# EAGLE library part XCV2000E_FG860 (library xilinx-xcv)
xcv2000e_fg860 edit this description Auto generated by make-symbol-device-package-bsdl.ulp Rev. 26 Source: xcv2000e_fg860.bsd
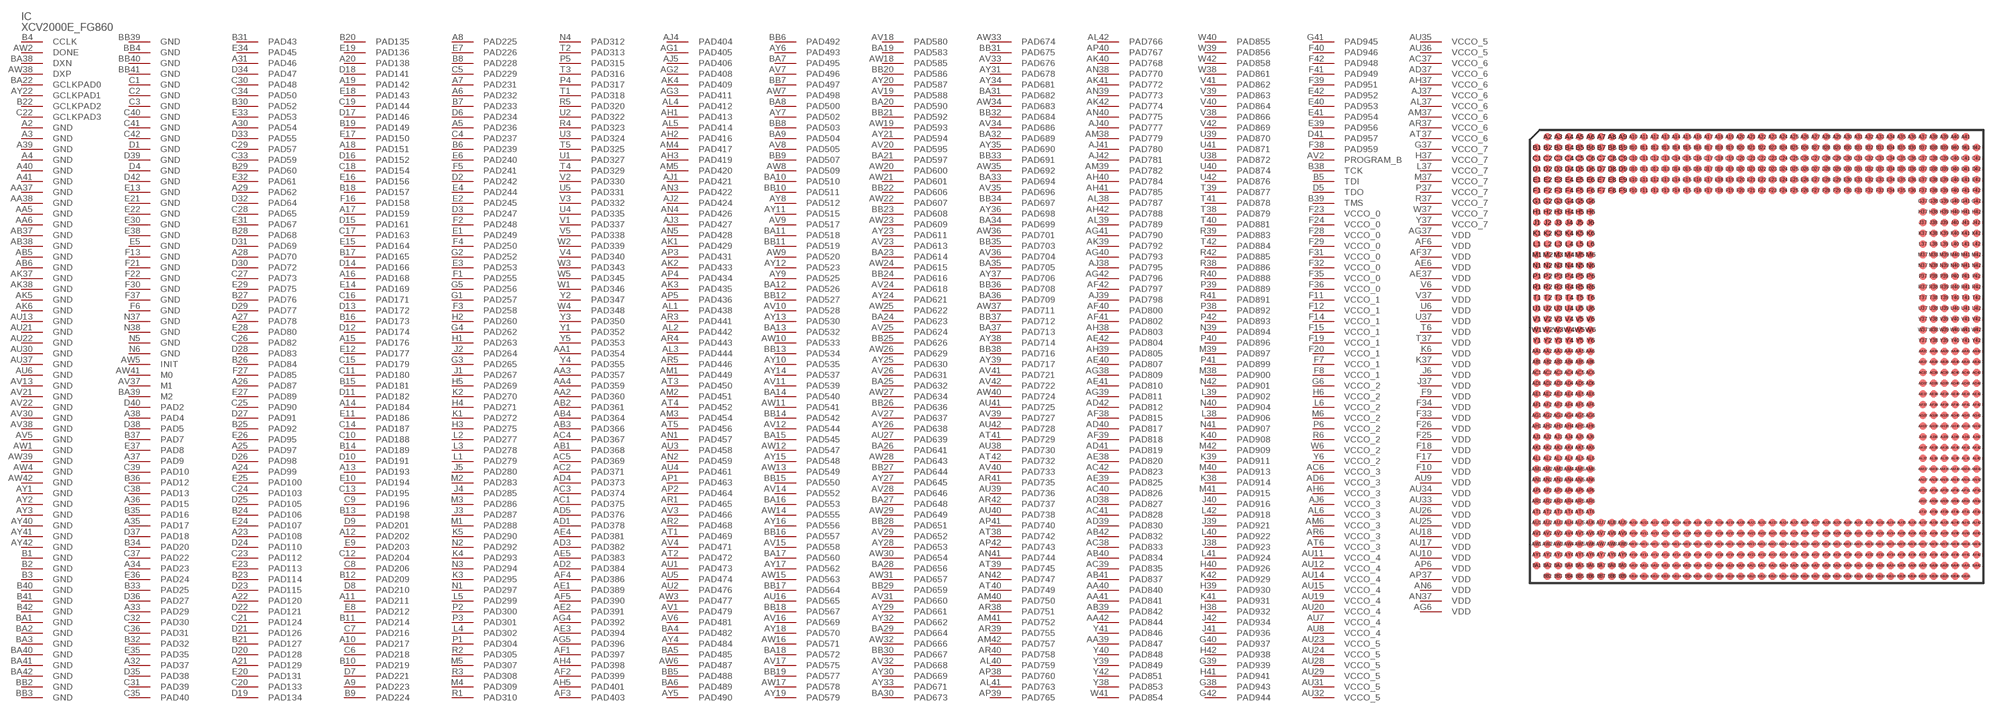
[diagram p52: symbol with the pads of FG860; footprint FG860]

Designator prefix IC

## XCV2000E_FG860  [FG860]
A2  GND  pwr
A3  GND  pwr
A4  GND  pwr
A5  PAD236
A6  PAD232
A7  PAD231
A8  PAD225
A9  PAD223
A10  PAD217
A11  PAD211
A12  PAD202
A13  PAD193
A14  PAD184
A15  PAD176
A16  PAD168
A17  PAD159
A18  PAD151
A19  PAD142
A20  PAD138
A21  PAD129
A22  PAD120
A23  PAD108
A24  PAD99
A25  PAD97
A26  PAD87
A27  PAD78
A28  PAD70
A29  PAD62
A30  PAD54
A31  PAD46
A32  PAD37
A33  PAD29
A34  PAD23
A35  PAD17
A36  PAD15
A37  PAD9
A38  PAD4
A39  GND  pwr
A40  GND  pwr
A41  GND  pwr
AA1  PAD354
AA2  PAD360
AA3  PAD357
AA4  PAD359
AA5  GND  pwr
AA6  GND  pwr
AA37  GND  pwr
AA38  GND  pwr
AA39  PAD847
AA40  PAD840
AA41  PAD841
AA42  PAD844
AB1  PAD368
AB2  PAD361
AB3  PAD366
AB4  PAD364
AB5  GND  pwr
AB6  GND  pwr
AB37  GND  pwr
AB38  GND  pwr
AB39  PAD842
AB40  PAD834
AB41  PAD837
AB42  PAD832
AC1  PAD375
AC2  PAD371
AC3  PAD374
AC4  PAD367
AC5  PAD369
AC6  VCCO_3  pwr
AC37  VCCO_6  pwr
AC38  PAD833
AC39  PAD835
AC40  PAD826
AC41  PAD828
AC42  PAD823
AD1  PAD378
AD2  PAD384
AD3  PAD382
AD4  PAD373
AD5  PAD376
AD6  VCCO_3  pwr
AD37  VCCO_6  pwr
AD38  PAD827
AD39  PAD830
AD40  PAD817
AD41  PAD819
AD42  PAD812
AE1  PAD389
AE2  PAD391
AE3  PAD394
AE4  PAD381
AE5  PAD383
AE6  VDD  pwr
AE37  VDD  pwr
AE38  PAD820
AE39  PAD825
AE40  PAD807
AE41  PAD810
AE42  PAD804
AF1  PAD397
AF2  PAD399
AF3  PAD403
AF4  PAD386
AF5  PAD390
AF6  VDD  pwr
AF37  VDD  pwr
AF38  PAD815
AF39  PAD818
AF40  PAD800
AF41  PAD802
AF42  PAD797
AG1  PAD405
AG2  PAD408
AG3  PAD411
AG4  PAD392
AG5  PAD396
AG6  VDD  pwr
AG37  VDD  pwr
AG38  PAD809
AG39  PAD811
AG40  PAD793
AG41  PAD790
AG42  PAD796
AH1  PAD413
AH2  PAD416
AH3  PAD419
AH4  PAD398
AH5  PAD401
AH6  VCCO_3  pwr
AH37  VCCO_6  pwr
AH38  PAD803
AH39  PAD805
AH40  PAD784
AH41  PAD785
AH42  PAD788
AJ1  PAD421
AJ2  PAD424
AJ3  PAD427
AJ4  PAD404
AJ5  PAD406
AJ6  VCCO_3  pwr
AJ37  VCCO_6  pwr
AJ38  PAD795
AJ39  PAD798
AJ40  PAD777
AJ41  PAD780
AJ42  PAD781
AK1  PAD429
AK2  PAD433
AK3  PAD435
AK4  PAD409
AK5  GND  pwr
AK6  GND  pwr
AK37  GND  pwr
AK38  GND  pwr
AK39  PAD792
AK40  PAD768
AK41  PAD772
AK42  PAD774
AL1  PAD438
AL2  PAD442
AL3  PAD444
AL4  PAD412
AL5  PAD414
AL6  VCCO_3  pwr
AL37  VCCO_6  pwr
AL38  PAD787
AL39  PAD789
AL40  PAD759
AL41  PAD763
AL42  PAD766
AM1  PAD449
AM2  PAD451
AM3  PAD454
AM4  PAD417
AM5  PAD420
AM6  VCCO_3  pwr
AM37  VCCO_6  pwr
AM38  PAD779
AM39  PAD782
AM40  PAD750
AM41  PAD752
AM42  PAD757
AN1  PAD457
AN2  PAD459
AN3  PAD422
AN4  PAD426
AN5  PAD428
AN6  VDD  pwr
AN37  VDD  pwr
AN38  PAD770
AN39  PAD773
AN40  PAD775
AN41  PAD744
AN42  PAD747
AP1  PAD463
AP2  PAD464
AP3  PAD431
AP4  PAD434
AP5  PAD436
AP6  VDD  pwr
AP37  VDD  pwr
AP38  PAD760
AP39  PAD765
AP40  PAD767
AP41  PAD740
AP42  PAD743
AR1  PAD465
AR2  PAD468
AR3  PAD441
AR4  PAD443
AR5  PAD446
AR6  VCCO_3  pwr
AR37  VCCO_6  pwr
AR38  PAD751
AR39  PAD755
AR40  PAD758
AR41  PAD735
AR42  PAD737
AT1  PAD469
AT2  PAD472
AT3  PAD450
AT4  PAD452
AT5  PAD456
AT6  VCCO_3  pwr
AT37  VCCO_6  pwr
AT38  PAD742
AT39  PAD745
AT40  PAD749
AT41  PAD729
AT42  PAD732
AU1  PAD473
AU2  PAD476
AU3  PAD458
AU4  PAD461
AU5  PAD474
AU6  GND  pwr
AU7  VCCO_4  pwr
AU8  VCCO_4  pwr
AU9  VDD  pwr
AU10  VDD  pwr
AU11  VCCO_4  pwr
AU12  VCCO_4  pwr
AU13  GND  pwr
AU14  VCCO_4  pwr
AU15  VCCO_4  pwr
AU16  PAD565
AU17  VDD  pwr
AU18  VDD  pwr
AU19  VCCO_4  pwr
AU20  VCCO_4  pwr
AU21  GND  pwr
AU22  GND  pwr
AU23  VCCO_5  pwr
AU24  VCCO_5  pwr
AU25  VDD  pwr
AU26  VDD  pwr
AU27  PAD639
AU28  VCCO_5  pwr
AU29  VCCO_5  pwr
AU30  GND  pwr
AU31  VCCO_5  pwr
AU32  VCCO_5  pwr
AU33  VDD  pwr
AU34  VDD  pwr
AU35  VCCO_5  pwr
AU36  VCCO_5  pwr
AU37  GND  pwr
AU38  PAD730
AU39  PAD736
AU40  PAD738
AU41  PAD725
AU42  PAD728
AV1  PAD479
AV2  PROGRAM_B  in
AV3  PAD466
AV4  PAD471
AV5  GND  pwr
AV6  PAD481
AV7  PAD496
AV8  PAD505
AV9  PAD517
AV10  PAD528
AV11  PAD539
AV12  PAD544
AV13  GND  pwr
AV14  PAD552
AV15  PAD558
AV16  PAD569
AV17  PAD575
AV18  PAD580
AV19  PAD588
AV20  PAD595
AV21  GND  pwr
AV22  GND  pwr
AV23  PAD613
AV24  PAD618
AV25  PAD624
AV26  PAD631
AV27  PAD637
AV28  PAD646
AV29  PAD652
AV30  GND  pwr
AV31  PAD660
AV32  PAD668
AV33  PAD676
AV34  PAD686
AV35  PAD696
AV36  PAD704
AV37  M1  in
AV38  GND  pwr
AV39  PAD727
AV40  PAD733
AV41  PAD721
AV42  PAD722
AW1  GND  pwr
AW2  DONE
AW3  PAD477
AW4  GND  pwr
AW5  INIT
AW6  PAD487
AW7  PAD498
AW8  PAD509
AW9  PAD520
AW10  PAD533
AW11  PAD541
AW12  PAD547
AW13  PAD549
AW14  PAD555
AW15  PAD563
AW16  PAD571
AW17  PAD578
AW18  PAD585
AW19  PAD593
AW20  PAD600
AW21  PAD601
AW22  PAD607
AW23  PAD609
AW24  PAD615
AW25  PAD622
AW26  PAD629
AW27  PAD634
AW28  PAD643
AW29  PAD649
AW30  PAD654
AW31  PAD657
AW32  PAD666
AW33  PAD674
AW34  PAD683
AW35  PAD692
AW36  PAD701
AW37  PAD711
AW38  DXP  pas
AW39  GND  pwr
AW40  PAD724
AW41  M0  in
AW42  GND  pwr
AY1  GND  pwr
AY2  GND  pwr
AY3  GND  pwr
AY4  PAD484
AY5  PAD490
AY6  PAD493
AY7  PAD502
AY8  PAD512
AY9  PAD525
AY10  PAD535
AY11  PAD515
AY12  PAD523
AY13  PAD530
AY14  PAD537
AY15  PAD548
AY16  PAD556
AY17  PAD562
AY18  PAD570
AY19  PAD579
AY20  PAD587
AY21  PAD594
AY22  GCLKPAD1  in
AY23  PAD611
AY24  PAD621
AY25  PAD630
AY26  PAD638
AY27  PAD645
AY28  PAD653
AY29  PAD661
AY30  PAD669
AY31  PAD678
AY32  PAD662
AY33  PAD671
AY34  PAD681
AY35  PAD690
AY36  PAD698
AY37  PAD706
AY38  PAD714
AY39  PAD717
AY40  GND  pwr
AY41  GND  pwr
AY42  GND  pwr
B1  GND  pwr
B2  GND  pwr
B3  GND  pwr
B4  CCLK
B5  TDI  in
B6  PAD239
B7  PAD233
B8  PAD228
B9  PAD224
B10  PAD219
B11  PAD214
B12  PAD209
B13  PAD198
B14  PAD189
B15  PAD181
B16  PAD173
B17  PAD165
B18  PAD157
B19  PAD149
B20  PAD135
B21  PAD127
B22  GCLKPAD2  in
B23  PAD114
B24  PAD106
B25  PAD92
B26  PAD84
B27  PAD76
B28  PAD68
B29  PAD60
B30  PAD52
B31  PAD43
B32  PAD32
B33  PAD25
B34  PAD20
B35  PAD16
B36  PAD12
B37  PAD7
B38  TCK  in
B39  TMS  in
B40  GND  pwr
B41  GND  pwr
B42  GND  pwr
BA1  GND  pwr
BA2  GND  pwr
BA3  GND  pwr
BA4  PAD482
BA5  PAD485
BA6  PAD489
BA7  PAD495
BA8  PAD500
BA9  PAD504
BA10  PAD510
BA11  PAD518
BA12  PAD526
BA13  PAD532
BA14  PAD540
BA15  PAD545
BA16  PAD553
BA17  PAD560
BA18  PAD572
BA19  PAD583
BA20  PAD590
BA21  PAD597
BA22  GCLKPAD0  in
BA23  PAD614
BA24  PAD623
BA25  PAD632
BA26  PAD641
BA27  PAD648
BA28  PAD656
BA29  PAD664
BA30  PAD673
BA31  PAD682
BA32  PAD689
BA33  PAD694
BA34  PAD699
BA35  PAD705
BA36  PAD709
BA37  PAD713
BA38  DXN  pas
BA39  M2  in
BA40  GND  pwr
BA41  GND  pwr
BA42  GND  pwr
BB2  GND  pwr
BB3  GND  pwr
BB4  GND  pwr
BB5  PAD488
BB6  PAD492
BB7  PAD497
BB8  PAD503
BB9  PAD507
BB10  PAD511
BB11  PAD519
BB12  PAD527
BB13  PAD534
BB14  PAD542
BB15  PAD550
BB16  PAD557
BB17  PAD564
BB18  PAD567
BB19  PAD577
BB20  PAD586
BB21  PAD592
BB22  PAD606
BB23  PAD608
BB24  PAD616
BB25  PAD626
BB26  PAD636
BB27  PAD644
BB28  PAD651
BB29  PAD659
BB30  PAD667
BB31  PAD675
BB32  PAD684
BB33  PAD691
BB34  PAD697
BB35  PAD703
BB36  PAD708
BB37  PAD712
BB38  PAD716
BB39  GND  pwr
BB40  GND  pwr
BB41  GND  pwr
C1  GND  pwr
C2  GND  pwr
C3  GND  pwr
C4  PAD237
C5  PAD229
C6  PAD218
C7  PAD216
C8  PAD206
C9  PAD196
C10  PAD188
C11  PAD180
C12  PAD204
C13  PAD195
C14  PAD187
C15  PAD179
C16  PAD171
C17  PAD163
C18  PAD154
C19  PAD144
C20  PAD133
C21  PAD124
C22  GCLKPAD3  in
C23  PAD112
C24  PAD103
C25  PAD90
C26  PAD82
C27  PAD73
C28  PAD65
C29  PAD57
C30  PAD48
C31  PAD39
C32  PAD30
C33  PAD59
C34  PAD50
C35  PAD40
C36  PAD31
C37  PAD22
C38  PAD13
C39  PAD10
C40  GND  pwr
C41  GND  pwr
C42  GND  pwr
D1  GND  pwr
D2  PAD242
D3  PAD247
D4  GND  pwr
D5  TDO  out
D6  PAD234
D7  PAD221
D8  PAD210
D9  PAD201
D10  PAD191
D11  PAD182
D12  PAD174
D13  PAD172
D14  PAD166
D15  PAD161
D16  PAD152
D17  PAD146
D18  PAD141
D19  PAD134
D20  PAD128
D21  PAD126
D22  PAD121
D23  PAD115
D24  PAD110
D25  PAD105
D26  PAD98
D27  PAD91
D28  PAD83
D29  PAD77
D30  PAD72
D31  PAD69
D32  PAD64
D33  PAD55
D34  PAD47
D35  PAD38
D36  PAD27
D37  PAD18
D38  PAD5
D39  GND  pwr
D40  PAD2
D41  PAD957
D42  GND  pwr
E1  PAD249
E2  PAD245
E3  PAD253
E4  PAD244
E5  GND  pwr
E6  PAD240
E7  PAD226
E8  PAD212
E9  PAD203
E10  PAD194
E11  PAD186
E12  PAD177
E13  GND  pwr
E14  PAD169
E15  PAD164
E16  PAD156
E17  PAD150
E18  PAD143
E19  PAD136
E20  PAD131
E21  GND  pwr
E22  GND  pwr
E23  PAD113
E24  PAD107
E25  PAD100
E26  PAD95
E27  PAD89
E28  PAD80
E29  PAD75
E30  GND  pwr
E31  PAD67
E32  PAD61
E33  PAD53
E34  PAD45
E35  PAD35
E36  PAD24
E37  PAD8
E38  GND  pwr
E39  PAD956
E40  PAD953
E41  PAD954
E42  PAD952
F1  PAD255
F2  PAD248
F3  PAD258
F4  PAD250
F5  PAD241
F6  GND  pwr
F7  VCCO_1  pwr
F8  VCCO_1  pwr
F9  VDD  pwr
F10  VDD  pwr
F11  VCCO_1  pwr
F12  VCCO_1  pwr
F13  GND  pwr
F14  VCCO_1  pwr
F15  VCCO_1  pwr
F16  PAD158
F17  VDD  pwr
F18  VDD  pwr
F19  VCCO_1  pwr
F20  VCCO_1  pwr
F21  GND  pwr
F22  GND  pwr
F23  VCCO_0  pwr
F24  VCCO_0  pwr
F25  VDD  pwr
F26  VDD  pwr
F27  PAD85
F28  VCCO_0  pwr
F29  VCCO_0  pwr
F30  GND  pwr
F31  VCCO_0  pwr
F32  VCCO_0  pwr
F33  VDD  pwr
F34  VDD  pwr
F35  VCCO_0  pwr
F36  VCCO_0  pwr
F37  GND  pwr
F38  PAD959
F39  PAD951
F40  PAD946
F41  PAD949
F42  PAD948
G1  PAD257
G2  PAD252
G3  PAD265
G4  PAD262
G5  PAD256
G6  VCCO_2  pwr
G37  VCCO_7  pwr
G38  PAD943
G39  PAD939
G40  PAD937
G41  PAD945
G42  PAD944
H1  PAD263
H2  PAD260
H3  PAD275
H4  PAD271
H5  PAD269
H6  VCCO_2  pwr
H37  VCCO_7  pwr
H38  PAD932
H39  PAD930
H40  PAD926
H41  PAD941
H42  PAD938
J1  PAD267
J2  PAD264
J3  PAD287
J4  PAD285
J5  PAD280
J6  VDD  pwr
J37  VDD  pwr
J38  PAD923
J39  PAD921
J40  PAD916
J41  PAD936
J42  PAD934
K1  PAD272
K2  PAD270
K3  PAD295
K4  PAD293
K5  PAD290
K6  VDD  pwr
K37  VDD  pwr
K38  PAD914
K39  PAD911
K40  PAD908
K41  PAD931
K42  PAD929
L1  PAD279
L2  PAD277
L3  PAD278
L4  PAD302
L5  PAD299
L6  VCCO_2  pwr
L37  VCCO_7  pwr
L38  PAD906
L39  PAD902
L40  PAD922
L41  PAD924
L42  PAD918
M1  PAD288
M2  PAD283
M3  PAD286
M4  PAD309
M5  PAD307
M6  VCCO_2  pwr
M37  VCCO_7  pwr
M38  PAD900
M39  PAD897
M40  PAD913
M41  PAD915
M42  PAD909
N1  PAD297
N2  PAD292
N3  PAD294
N4  PAD312
N5  GND  pwr
N6  GND  pwr
N37  GND  pwr
N38  GND  pwr
N39  PAD894
N40  PAD904
N41  PAD907
N42  PAD901
P1  PAD304
P2  PAD300
P3  PAD301
P4  PAD317
P5  PAD315
P6  VCCO_2  pwr
P37  VCCO_7  pwr
P38  PAD892
P39  PAD889
P40  PAD896
P41  PAD899
P42  PAD893
R1  PAD310
R2  PAD305
R3  PAD308
R4  PAD323
R5  PAD320
R6  VCCO_2  pwr
R37  VCCO_7  pwr
R38  PAD886
R39  PAD883
R40  PAD888
R41  PAD891
R42  PAD885
T1  PAD318
T2  PAD313
T3  PAD316
T4  PAD329
T5  PAD325
T6  VDD  pwr
T37  VDD  pwr
T38  PAD879
T39  PAD877
T40  PAD881
T41  PAD878
T42  PAD884
U1  PAD327
U2  PAD322
U3  PAD324
U4  PAD335
U5  PAD331
U6  VDD  pwr
U37  VDD  pwr
U38  PAD872
U39  PAD870
U40  PAD874
U41  PAD871
U42  PAD876
V1  PAD337
V2  PAD330
V3  PAD332
V4  PAD340
V5  PAD338
V6  VDD  pwr
V37  VDD  pwr
V38  PAD866
V39  PAD863
V40  PAD864
V41  PAD862
V42  PAD869
W1  PAD346
W2  PAD339
W3  PAD343
W4  PAD348
W5  PAD345
W6  VCCO_2  pwr
W37  VCCO_7  pwr
W38  PAD861
W39  PAD856
W40  PAD855
W41  PAD854
W42  PAD858
Y1  PAD352
Y2  PAD347
Y3  PAD350
Y4  PAD355
Y5  PAD353
Y6  VCCO_2  pwr
Y37  VCCO_7  pwr
Y38  PAD853
Y39  PAD849
Y40  PAD848
Y41  PAD846
Y42  PAD851

## Footprint FG860 (pad centres in mm)
xcv1000e_fg860_1532 edit this description Auto generated by make-symbol-device-package-bsdl.ulp Rev. 26 Source: xcv1000e_fg860_1532.bsd
smd 0.7 x 0.7: A2 -19.5,20.5; A3 -18.5,20.5; A4 -17.5,20.5; A5 -16.5,20.5; A6 -15.5,20.5; A7 -14.5,20.5; A8 -13.5,20.5; A9 -12.5,20.5; A10 -11.5,20.5; A11 -10.5,20.5; A12 -9.5,20.5; A13 -8.5,20.5; A14 -7.5,20.5; A15 -6.5,20.5; A16 -5.5,20.5; A17 -4.5,20.5; A18 -3.5,20.5; A19 -2.5,20.5; A20 -1.5,20.5; A21 -0.5,20.5; A22 0.5,20.5; A23 1.5,20.5; A24 2.5,20.5; A25 3.5,20.5; A26 4.5,20.5; A27 5.5,20.5; A28 6.5,20.5; A29 7.5,20.5; A30 8.5,20.5; A31 9.5,20.5; A32 10.5,20.5; A33 11.5,20.5; A34 12.5,20.5; A35 13.5,20.5; A36 14.5,20.5; A37 15.5,20.5; A38 16.5,20.5; A39 17.5,20.5; A40 18.5,20.5; A41 19.5,20.5; AA1 -20.5,0.5; AA2 -19.5,0.5; AA3 -18.5,0.5; AA4 -17.5,0.5; AA5 -16.5,0.5; AA6 -15.5,0.5; AA37 15.5,0.5; AA38 16.5,0.5; AA39 17.5,0.5; AA40 18.5,0.5; AA41 19.5,0.5; AA42 20.5,0.5; AB1 -20.5,-0.5; AB2 -19.5,-0.5; AB3 -18.5,-0.5; AB4 -17.5,-0.5; AB5 -16.5,-0.5; AB6 -15.5,-0.5; AB37 15.5,-0.5; AB38 16.5,-0.5; AB39 17.5,-0.5; AB40 18.5,-0.5; AB41 19.5,-0.5; AB42 20.5,-0.5; AC1 -20.5,-1.5; AC2 -19.5,-1.5; AC3 -18.5,-1.5; AC4 -17.5,-1.5; AC5 -16.5,-1.5; AC6 -15.5,-1.5; AC37 15.5,-1.5; AC38 16.5,-1.5; AC39 17.5,-1.5; AC40 18.5,-1.5; AC41 19.5,-1.5; AC42 20.5,-1.5; AD1 -20.5,-2.5; AD2 -19.5,-2.5; AD3 -18.5,-2.5; AD4 -17.5,-2.5; AD5 -16.5,-2.5; AD6 -15.5,-2.5; AD37 15.5,-2.5; AD38 16.5,-2.5; AD39 17.5,-2.5; AD40 18.5,-2.5; AD41 19.5,-2.5; AD42 20.5,-2.5; AE1 -20.5,-3.5; AE2 -19.5,-3.5; AE3 -18.5,-3.5; AE4 -17.5,-3.5; AE5 -16.5,-3.5; AE6 -15.5,-3.5; AE37 15.5,-3.5; AE38 16.5,-3.5; AE39 17.5,-3.5; AE40 18.5,-3.5; AE41 19.5,-3.5; AE42 20.5,-3.5; AF1 -20.5,-4.5; AF2 -19.5,-4.5; AF3 -18.5,-4.5; AF4 -17.5,-4.5; AF5 -16.5,-4.5; AF6 -15.5,-4.5; AF37 15.5,-4.5; AF38 16.5,-4.5; AF39 17.5,-4.5; AF40 18.5,-4.5; AF41 19.5,-4.5; AF42 20.5,-4.5; AG1 -20.5,-5.5; AG2 -19.5,-5.5; AG3 -18.5,-5.5; AG4 -17.5,-5.5; AG5 -16.5,-5.5; AG6 -15.5,-5.5; AG37 15.5,-5.5; AG38 16.5,-5.5; AG39 17.5,-5.5; AG40 18.5,-5.5; AG41 19.5,-5.5; AG42 20.5,-5.5; AH1 -20.5,-6.5; AH2 -19.5,-6.5; AH3 -18.5,-6.5; AH4 -17.5,-6.5; AH5 -16.5,-6.5; AH6 -15.5,-6.5; AH37 15.5,-6.5; AH38 16.5,-6.5; AH39 17.5,-6.5; AH40 18.5,-6.5; AH41 19.5,-6.5; AH42 20.5,-6.5; AJ1 -20.5,-7.5; AJ2 -19.5,-7.5; AJ3 -18.5,-7.5; AJ4 -17.5,-7.5; AJ5 -16.5,-7.5; AJ6 -15.5,-7.5; AJ37 15.5,-7.5; AJ38 16.5,-7.5; AJ39 17.5,-7.5; AJ40 18.5,-7.5; AJ41 19.5,-7.5; AJ42 20.5,-7.5; AK1 -20.5,-8.5; AK2 -19.5,-8.5; AK3 -18.5,-8.5; AK4 -17.5,-8.5; AK5 -16.5,-8.5; AK6 -15.5,-8.5; AK37 15.5,-8.5; AK38 16.5,-8.5; AK39 17.5,-8.5; AK40 18.5,-8.5; AK41 19.5,-8.5; AK42 20.5,-8.5; AL1 -20.5,-9.5; AL2 -19.5,-9.5; AL3 -18.5,-9.5; AL4 -17.5,-9.5; AL5 -16.5,-9.5; AL6 -15.5,-9.5; AL37 15.5,-9.5; AL38 16.5,-9.5; AL39 17.5,-9.5; AL40 18.5,-9.5; AL41 19.5,-9.5; AL42 20.5,-9.5; AM1 -20.5,-10.5; AM2 -19.5,-10.5; AM3 -18.5,-10.5; AM4 -17.5,-10.5; AM5 -16.5,-10.5; AM6 -15.5,-10.5; AM37 15.5,-10.5; AM38 16.5,-10.5; AM39 17.5,-10.5; AM40 18.5,-10.5; AM41 19.5,-10.5; AM42 20.5,-10.5; AN1 -20.5,-11.5; AN2 -19.5,-11.5; AN3 -18.5,-11.5; AN4 -17.5,-11.5; AN5 -16.5,-11.5; AN6 -15.5,-11.5; AN37 15.5,-11.5; AN38 16.5,-11.5; AN39 17.5,-11.5; AN40 18.5,-11.5; AN41 19.5,-11.5; AN42 20.5,-11.5; AP1 -20.5,-12.5; AP2 -19.5,-12.5; AP3 -18.5,-12.5; AP4 -17.5,-12.5; AP5 -16.5,-12.5; AP6 -15.5,-12.5; AP37 15.5,-12.5; AP38 16.5,-12.5; AP39 17.5,-12.5; AP40 18.5,-12.5; AP41 19.5,-12.5; AP42 20.5,-12.5; AR1 -20.5,-13.5; AR2 -19.5,-13.5; AR3 -18.5,-13.5; AR4 -17.5,-13.5; AR5 -16.5,-13.5; AR6 -15.5,-13.5; AR37 15.5,-13.5; AR38 16.5,-13.5; AR39 17.5,-13.5; AR40 18.5,-13.5; AR41 19.5,-13.5; AR42 20.5,-13.5; AT1 -20.5,-14.5; AT2 -19.5,-14.5; AT3 -18.5,-14.5; AT4 -17.5,-14.5; AT5 -16.5,-14.5; AT6 -15.5,-14.5; AT37 15.5,-14.5; AT38 16.5,-14.5; AT39 17.5,-14.5; AT40 18.5,-14.5; AT41 19.5,-14.5; AT42 20.5,-14.5; AU1 -20.5,-15.5; AU2 -19.5,-15.5; AU3 -18.5,-15.5; AU4 -17.5,-15.5; AU5 -16.5,-15.5; AU6 -15.5,-15.5; AU7 -14.5,-15.5; AU8 -13.5,-15.5; AU9 -12.5,-15.5; AU10 -11.5,-15.5; AU11 -10.5,-15.5; AU12 -9.5,-15.5; AU13 -8.5,-15.5; AU14 -7.5,-15.5; AU15 -6.5,-15.5; AU16 -5.5,-15.5; AU17 -4.5,-15.5; AU18 -3.5,-15.5; AU19 -2.5,-15.5; AU20 -1.5,-15.5; AU21 -0.5,-15.5; AU22 0.5,-15.5; AU23 1.5,-15.5; AU24 2.5,-15.5; AU25 3.5,-15.5; AU26 4.5,-15.5; AU27 5.5,-15.5; AU28 6.5,-15.5; AU29 7.5,-15.5; AU30 8.5,-15.5; AU31 9.5,-15.5; AU32 10.5,-15.5; AU33 11.5,-15.5; AU34 12.5,-15.5; AU35 13.5,-15.5; AU36 14.5,-15.5; AU37 15.5,-15.5; AU38 16.5,-15.5; AU39 17.5,-15.5; AU40 18.5,-15.5; AU41 19.5,-15.5; AU42 20.5,-15.5; AV1 -20.5,-16.5; AV2 -19.5,-16.5; AV3 -18.5,-16.5; AV4 -17.5,-16.5; AV5 -16.5,-16.5; AV6 -15.5,-16.5; AV7 -14.5,-16.5; AV8 -13.5,-16.5; AV9 -12.5,-16.5; AV10 -11.5,-16.5; AV11 -10.5,-16.5; AV12 -9.5,-16.5; AV13 -8.5,-16.5; AV14 -7.5,-16.5; AV15 -6.5,-16.5; AV16 -5.5,-16.5; AV17 -4.5,-16.5; AV18 -3.5,-16.5; AV19 -2.5,-16.5; AV20 -1.5,-16.5; AV21 -0.5,-16.5; AV22 0.5,-16.5; AV23 1.5,-16.5; AV24 2.5,-16.5; AV25 3.5,-16.5; AV26 4.5,-16.5; AV27 5.5,-16.5; AV28 6.5,-16.5; AV29 7.5,-16.5; AV30 8.5,-16.5; AV31 9.5,-16.5; AV32 10.5,-16.5; AV33 11.5,-16.5; AV34 12.5,-16.5; AV35 13.5,-16.5; AV36 14.5,-16.5; AV37 15.5,-16.5; AV38 16.5,-16.5; AV39 17.5,-16.5; AV40 18.5,-16.5; AV41 19.5,-16.5; AV42 20.5,-16.5; AW1 -20.5,-17.5; AW2 -19.5,-17.5; AW3 -18.5,-17.5; AW4 -17.5,-17.5; AW5 -16.5,-17.5; AW6 -15.5,-17.5; AW7 -14.5,-17.5; AW8 -13.5,-17.5; AW9 -12.5,-17.5; AW10 -11.5,-17.5; AW11 -10.5,-17.5; AW12 -9.5,-17.5; AW13 -8.5,-17.5; AW14 -7.5,-17.5; AW15 -6.5,-17.5; AW16 -5.5,-17.5; AW17 -4.5,-17.5; AW18 -3.5,-17.5; AW19 -2.5,-17.5; AW20 -1.5,-17.5; AW21 -0.5,-17.5; AW22 0.5,-17.5; AW23 1.5,-17.5; AW24 2.5,-17.5; AW25 3.5,-17.5; AW26 4.5,-17.5; AW27 5.5,-17.5; AW28 6.5,-17.5; AW29 7.5,-17.5; AW30 8.5,-17.5; AW31 9.5,-17.5; AW32 10.5,-17.5; AW33 11.5,-17.5; AW34 12.5,-17.5; AW35 13.5,-17.5; AW36 14.5,-17.5; AW37 15.5,-17.5; AW38 16.5,-17.5; AW39 17.5,-17.5; AW40 18.5,-17.5; AW41 19.5,-17.5; AW42 20.5,-17.5; AY1 -20.5,-18.5; AY2 -19.5,-18.5; AY3 -18.5,-18.5; AY4 -17.5,-18.5; AY5 -16.5,-18.5; AY6 -15.5,-18.5; AY7 -14.5,-18.5; AY8 -13.5,-18.5; AY9 -12.5,-18.5; AY10 -11.5,-18.5; AY11 -10.5,-18.5; AY12 -9.5,-18.5; AY13 -8.5,-18.5; AY14 -7.5,-18.5; AY15 -6.5,-18.5; AY16 -5.5,-18.5; AY17 -4.5,-18.5; AY18 -3.5,-18.5; AY19 -2.5,-18.5; AY20 -1.5,-18.5; AY21 -0.5,-18.5; AY22 0.5,-18.5; AY23 1.5,-18.5; AY24 2.5,-18.5; AY25 3.5,-18.5; AY26 4.5,-18.5; AY27 5.5,-18.5; AY28 6.5,-18.5; AY29 7.5,-18.5; AY30 8.5,-18.5; AY31 9.5,-18.5; AY32 10.5,-18.5; AY33 11.5,-18.5; AY34 12.5,-18.5; AY35 13.5,-18.5; AY36 14.5,-18.5; AY37 15.5,-18.5; AY38 16.5,-18.5; AY39 17.5,-18.5; AY40 18.5,-18.5; AY41 19.5,-18.5; AY42 20.5,-18.5; B1 -20.5,19.5; B2 -19.5,19.5; B3 -18.5,19.5; B4 -17.5,19.5; B5 -16.5,19.5; B6 -15.5,19.5; B7 -14.5,19.5; B8 -13.5,19.5; B9 -12.5,19.5; B10 -11.5,19.5; B11 -10.5,19.5; B12 -9.5,19.5; B13 -8.5,19.5; B14 -7.5,19.5; B15 -6.5,19.5; B16 -5.5,19.5; B17 -4.5,19.5; B18 -3.5,19.5; B19 -2.5,19.5; B20 -1.5,19.5; B21 -0.5,19.5; B22 0.5,19.5; B23 1.5,19.5; B24 2.5,19.5; B25 3.5,19.5; B26 4.5,19.5; B27 5.5,19.5; B28 6.5,19.5; B29 7.5,19.5; B30 8.5,19.5; B31 9.5,19.5; B32 10.5,19.5; B33 11.5,19.5; B34 12.5,19.5; B35 13.5,19.5; B36 14.5,19.5; B37 15.5,19.5; B38 16.5,19.5; B39 17.5,19.5; B40 18.5,19.5; B41 19.5,19.5; B42 20.5,19.5; BA1 -20.5,-19.5; BA2 -19.5,-19.5; BA3 -18.5,-19.5; BA4 -17.5,-19.5; BA5 -16.5,-19.5; BA6 -15.5,-19.5; BA7 -14.5,-19.5; BA8 -13.5,-19.5; BA9 -12.5,-19.5; BA10 -11.5,-19.5; BA11 -10.5,-19.5; BA12 -9.5,-19.5; BA13 -8.5,-19.5; BA14 -7.5,-19.5; BA15 -6.5,-19.5; BA16 -5.5,-19.5; BA17 -4.5,-19.5; BA18 -3.5,-19.5; BA19 -2.5,-19.5; BA20 -1.5,-19.5; BA21 -0.5,-19.5; BA22 0.5,-19.5; BA23 1.5,-19.5; BA24 2.5,-19.5; BA25 3.5,-19.5; BA26 4.5,-19.5; BA27 5.5,-19.5; BA28 6.5,-19.5; BA29 7.5,-19.5; BA30 8.5,-19.5; BA31 9.5,-19.5; BA32 10.5,-19.5; BA33 11.5,-19.5; BA34 12.5,-19.5; BA35 13.5,-19.5; BA36 14.5,-19.5; BA37 15.5,-19.5; BA38 16.5,-19.5; BA39 17.5,-19.5; BA40 18.5,-19.5; BA41 19.5,-19.5; BA42 20.5,-19.5; BB2 -19.5,-20.5; BB3 -18.5,-20.5; BB4 -17.5,-20.5; BB5 -16.5,-20.5; BB6 -15.5,-20.5; BB7 -14.5,-20.5; BB8 -13.5,-20.5; BB9 -12.5,-20.5; BB10 -11.5,-20.5; BB11 -10.5,-20.5; BB12 -9.5,-20.5; BB13 -8.5,-20.5; BB14 -7.5,-20.5; BB15 -6.5,-20.5; BB16 -5.5,-20.5; BB17 -4.5,-20.5; BB18 -3.5,-20.5; BB19 -2.5,-20.5; BB20 -1.5,-20.5; BB21 -0.5,-20.5; BB22 0.5,-20.5; BB23 1.5,-20.5; BB24 2.5,-20.5; BB25 3.5,-20.5; BB26 4.5,-20.5; BB27 5.5,-20.5; BB28 6.5,-20.5; BB29 7.5,-20.5; BB30 8.5,-20.5; BB31 9.5,-20.5; BB32 10.5,-20.5; BB33 11.5,-20.5; BB34 12.5,-20.5; BB35 13.5,-20.5; BB36 14.5,-20.5; BB37 15.5,-20.5; BB38 16.5,-20.5; BB39 17.5,-20.5; BB40 18.5,-20.5; BB41 19.5,-20.5; C1 -20.5,18.5; C2 -19.5,18.5; C3 -18.5,18.5; C4 -17.5,18.5; C5 -16.5,18.5; C6 -15.5,18.5; C7 -14.5,18.5; C8 -13.5,18.5; C9 -12.5,18.5; C10 -11.5,18.5; C11 -10.5,18.5; C12 -9.5,18.5; C13 -8.5,18.5; C14 -7.5,18.5; C15 -6.5,18.5; C16 -5.5,18.5; C17 -4.5,18.5; C18 -3.5,18.5; C19 -2.5,18.5; C20 -1.5,18.5; C21 -0.5,18.5; C22 0.5,18.5; C23 1.5,18.5; C24 2.5,18.5; C25 3.5,18.5; C26 4.5,18.5; C27 5.5,18.5; C28 6.5,18.5; C29 7.5,18.5; C30 8.5,18.5; C31 9.5,18.5; C32 10.5,18.5; C33 11.5,18.5; C34 12.5,18.5; C35 13.5,18.5; C36 14.5,18.5; C37 15.5,18.5; C38 16.5,18.5; C39 17.5,18.5; C40 18.5,18.5; C41 19.5,18.5; C42 20.5,18.5; D1 -20.5,17.5; D2 -19.5,17.5; D3 -18.5,17.5; D4 -17.5,17.5; D5 -16.5,17.5; D6 -15.5,17.5; D7 -14.5,17.5; D8 -13.5,17.5; D9 -12.5,17.5; D10 -11.5,17.5; D11 -10.5,17.5; D12 -9.5,17.5; D13 -8.5,17.5; D14 -7.5,17.5; D15 -6.5,17.5; D16 -5.5,17.5; D17 -4.5,17.5; D18 -3.5,17.5; D19 -2.5,17.5; D20 -1.5,17.5; D21 -0.5,17.5; D22 0.5,17.5; D23 1.5,17.5; D24 2.5,17.5; D25 3.5,17.5; D26 4.5,17.5; D27 5.5,17.5; D28 6.5,17.5; D29 7.5,17.5; D30 8.5,17.5; D31 9.5,17.5; D32 10.5,17.5; D33 11.5,17.5; D34 12.5,17.5; D35 13.5,17.5; D36 14.5,17.5; D37 15.5,17.5; D38 16.5,17.5; D39 17.5,17.5; D40 18.5,17.5; D41 19.5,17.5; D42 20.5,17.5; E1 -20.5,16.5; E2 -19.5,16.5; E3 -18.5,16.5; E4 -17.5,16.5; E5 -16.5,16.5; E6 -15.5,16.5; E7 -14.5,16.5; E8 -13.5,16.5; E9 -12.5,16.5; E10 -11.5,16.5; E11 -10.5,16.5; E12 -9.5,16.5; E13 -8.5,16.5; E14 -7.5,16.5; E15 -6.5,16.5; E16 -5.5,16.5; E17 -4.5,16.5; E18 -3.5,16.5; E19 -2.5,16.5; E20 -1.5,16.5; E21 -0.5,16.5; E22 0.5,16.5; E23 1.5,16.5; E24 2.5,16.5; E25 3.5,16.5; E26 4.5,16.5; E27 5.5,16.5; E28 6.5,16.5; E29 7.5,16.5; E30 8.5,16.5; E31 9.5,16.5; E32 10.5,16.5; E33 11.5,16.5; E34 12.5,16.5; E35 13.5,16.5; E36 14.5,16.5; E37 15.5,16.5; E38 16.5,16.5; E39 17.5,16.5; E40 18.5,16.5; E41 19.5,16.5; E42 20.5,16.5; F1 -20.5,15.5; F2 -19.5,15.5; F3 -18.5,15.5; F4 -17.5,15.5; F5 -16.5,15.5; F6 -15.5,15.5; F7 -14.5,15.5; F8 -13.5,15.5; F9 -12.5,15.5; F10 -11.5,15.5; F11 -10.5,15.5; F12 -9.5,15.5; F13 -8.5,15.5; F14 -7.5,15.5; F15 -6.5,15.5; F16 -5.5,15.5; F17 -4.5,15.5; F18 -3.5,15.5; F19 -2.5,15.5; F20 -1.5,15.5; F21 -0.5,15.5; F22 0.5,15.5; F23 1.5,15.5; F24 2.5,15.5; F25 3.5,15.5; F26 4.5,15.5; F27 5.5,15.5; F28 6.5,15.5; F29 7.5,15.5; F30 8.5,15.5; F31 9.5,15.5; F32 10.5,15.5; F33 11.5,15.5; F34 12.5,15.5; F35 13.5,15.5; F36 14.5,15.5; F37 15.5,15.5; F38 16.5,15.5; F39 17.5,15.5; F40 18.5,15.5; F41 19.5,15.5; F42 20.5,15.5; G1 -20.5,14.5; G2 -19.5,14.5; G3 -18.5,14.5; G4 -17.5,14.5; G5 -16.5,14.5; G6 -15.5,14.5; G37 15.5,14.5; G38 16.5,14.5; G39 17.5,14.5; G40 18.5,14.5; G41 19.5,14.5; G42 20.5,14.5; H1 -20.5,13.5; H2 -19.5,13.5; H3 -18.5,13.5; H4 -17.5,13.5; H5 -16.5,13.5; H6 -15.5,13.5; H37 15.5,13.5; H38 16.5,13.5; H39 17.5,13.5; H40 18.5,13.5; H41 19.5,13.5; H42 20.5,13.5; J1 -20.5,12.5; J2 -19.5,12.5; J3 -18.5,12.5; J4 -17.5,12.5; J5 -16.5,12.5; J6 -15.5,12.5; J37 15.5,12.5; J38 16.5,12.5; J39 17.5,12.5; J40 18.5,12.5; J41 19.5,12.5; J42 20.5,12.5; K1 -20.5,11.5; K2 -19.5,11.5; K3 -18.5,11.5; K4 -17.5,11.5; K5 -16.5,11.5; K6 -15.5,11.5; K37 15.5,11.5; K38 16.5,11.5; K39 17.5,11.5; K40 18.5,11.5; K41 19.5,11.5; K42 20.5,11.5; L1 -20.5,10.5; L2 -19.5,10.5; L3 -18.5,10.5; L4 -17.5,10.5; L5 -16.5,10.5; L6 -15.5,10.5; L37 15.5,10.5; L38 16.5,10.5; L39 17.5,10.5; L40 18.5,10.5; L41 19.5,10.5; L42 20.5,10.5; M1 -20.5,9.5; M2 -19.5,9.5; M3 -18.5,9.5; M4 -17.5,9.5; M5 -16.5,9.5; M6 -15.5,9.5; M37 15.5,9.5; M38 16.5,9.5; M39 17.5,9.5; M40 18.5,9.5; M41 19.5,9.5; M42 20.5,9.5; N1 -20.5,8.5; N2 -19.5,8.5; N3 -18.5,8.5; N4 -17.5,8.5; N5 -16.5,8.5; N6 -15.5,8.5; N37 15.5,8.5; N38 16.5,8.5; N39 17.5,8.5; N40 18.5,8.5; N41 19.5,8.5; N42 20.5,8.5; P1 -20.5,7.5; P2 -19.5,7.5; P3 -18.5,7.5; P4 -17.5,7.5; P5 -16.5,7.5; P6 -15.5,7.5; P37 15.5,7.5; P38 16.5,7.5; P39 17.5,7.5; P40 18.5,7.5; P41 19.5,7.5; P42 20.5,7.5; R1 -20.5,6.5; R2 -19.5,6.5; R3 -18.5,6.5; R4 -17.5,6.5; R5 -16.5,6.5; R6 -15.5,6.5; R37 15.5,6.5; R38 16.5,6.5; R39 17.5,6.5; R40 18.5,6.5; R41 19.5,6.5; R42 20.5,6.5; T1 -20.5,5.5; T2 -19.5,5.5; T3 -18.5,5.5; T4 -17.5,5.5; T5 -16.5,5.5; T6 -15.5,5.5; T37 15.5,5.5; T38 16.5,5.5; T39 17.5,5.5; T40 18.5,5.5; T41 19.5,5.5; T42 20.5,5.5; U1 -20.5,4.5; U2 -19.5,4.5; U3 -18.5,4.5; U4 -17.5,4.5; U5 -16.5,4.5; U6 -15.5,4.5; U37 15.5,4.5; U38 16.5,4.5; U39 17.5,4.5; U40 18.5,4.5; U41 19.5,4.5; U42 20.5,4.5; V1 -20.5,3.5; V2 -19.5,3.5; V3 -18.5,3.5; V4 -17.5,3.5; V5 -16.5,3.5; V6 -15.5,3.5; V37 15.5,3.5; V38 16.5,3.5; V39 17.5,3.5; V40 18.5,3.5; V41 19.5,3.5; V42 20.5,3.5; W1 -20.5,2.5; W2 -19.5,2.5; W3 -18.5,2.5; W4 -17.5,2.5; W5 -16.5,2.5; W6 -15.5,2.5; W37 15.5,2.5; W38 16.5,2.5; W39 17.5,2.5; W40 18.5,2.5; W41 19.5,2.5; W42 20.5,2.5; Y1 -20.5,1.5; Y2 -19.5,1.5; Y3 -18.5,1.5; Y4 -17.5,1.5; Y5 -16.5,1.5; Y6 -15.5,1.5; Y37 15.5,1.5; Y38 16.5,1.5; Y39 17.5,1.5; Y40 18.5,1.5; Y41 19.5,1.5; Y42 20.5,1.5